# EAGLE library part ARDUINO_LILYPAD (library E14_Arduino_published)
Device for representing a Lilypad Arduino board with a footprint in an EAGLE design. Created by Dave Young for Element14. More EAGLE documentation at: http://www.element14.com/community/community/knode/cadsoft_eagle
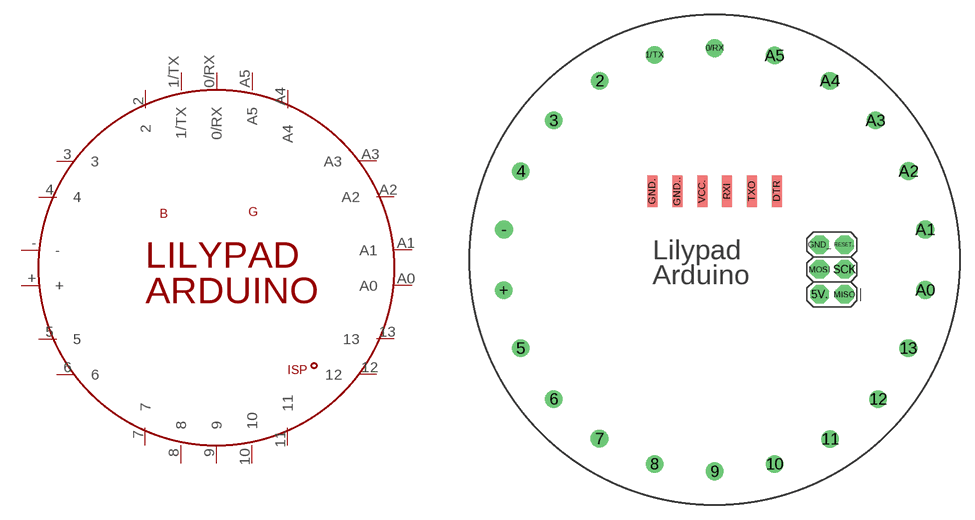
[diagram p8: symbol with the pads of ARDUINO_LILYPAD; footprint ARDUINO_LILYPAD]

Designator prefix PCB

## ARDUINO_LILYPAD  [ARDUINO_LILYPAD]
0/RX  0/RX
1/TX  1/TX
2  2
3  3
4  4
5  5
5V.  VCC
6  6
7  7
8  8
9  9
10  10
11  11
12  12
13  13
+  +
-  -
A0  A0
A1  A1
A2  A2
A3  A3
A4  A4
A5  A5
DTR  DTR
GND.  GND.
GND..  GND..
GND_  GND
MISO  MISO
MOSI  MOSI
RESET..  RST
RXI  RXI
SCK  SCK
TXO  TXO
VCC.  VCC.

## Footprint ARDUINO_LILYPAD (pad centres in mm)
Footprint for representing a Lilypad Arduino board in an EAGLE schematic. Created by Dave Young for Element14. More EAGLE documentation at: http://www.element14.com/community/community/knode/cadsoft_eagle
drill 1.2: 0/RX 0,21.59; 1/TX -6.13,20.89; 2 -11.73,18.26; 3 -16.4,14.21; 4 -19.77,9.03; 5 -19.77,-9.03; 6 -16.4,-14.21; 7 -11.74,-18.26; 8 -6.11,-20.83; 9 0,-21.59; 10 6.11,-20.83; 11 11.76,-18.28; 12 16.654,-14.21; 13 19.74,-9.02; + -21.52,-3.1; - -21.48,3.09; A0 21.48,-3.09; A1 21.48,3.09; A2 19.77,9.04; A3 16.4,14.21; A4 11.74,18.26; A5 6.11,20.83
drill 1.016 pad 1.88 octagon: 5V. 10.693,-3.531; GND_ 10.693,1.549; MISO 13.233,-3.531; MOSI 10.693,-0.991; RESET.. 13.233,1.549; SCK 13.233,-0.991
smd 1.016 x 3.175: DTR 6.35,6.985; GND. -6.35,6.985; GND.. -3.81,6.985; RXI 1.27,6.985; TXO 3.81,6.985; VCC. -1.27,6.985